# Altium integrated library Switch.IntLib: 11 symbols
Pins are listed as number, name and electrical type; pins without a type are passive.

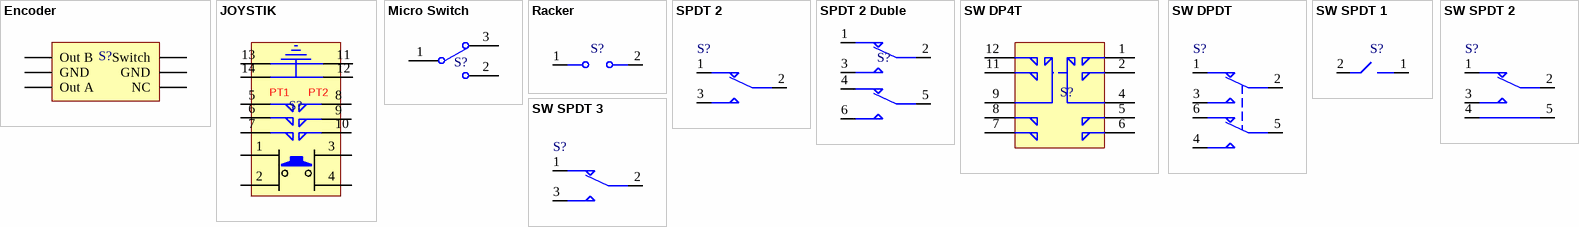
[diagram p0: symbols Encoder to SW SPDT 3]

## Encoder
designator S?
DatasheetVersion: 2022
footprint Encoder (Alps Enkoder+ sw)
pins: 0 NC, 1 Out A, 2 Out B, 3 GND , 4 GND, 5 Switch

## JOYSTIK
designator S?
DatasheetVersion: 2022
footprint JOYSTIK
pins: 1, 2, 3, 4, 5, 6, 7, 8, 9, 10, 11, 12, 13, 14
text: PT1; PT2

## Micro Switch
designator S?
ComponentLinkp-URL: https://www.smartw.ir/; DatasheetVersion: 2022
footprint Micro Switch
footprint Micro Switch-H
pins: 1, 2, 3

## Racker
designator S?
DatasheetVersion: 2022
footprint Racker 2 Pin
footprint SWRCK_SPST_S (SWITCH Rocker, SPST, Straight)
pins: 1 Button, 2

## SPDT 2
designator S?
Toggle SPDT Switch without Body Hole; DatasheetVersion: 2022
footprint Switch SPDT - 500x270x1100x185 mil
footprint Switch SPDT - 500x270x1100x185 mil - Right Angle
footprint SW SPDT- Horizontal
footprint SWTOG_SPDT_S_200MSPM2 (Switch Toggle, SPDT RightAngle, E.SWITCH 200MSP1T1B1M2QEH)
footprint SWTOG_SPDT_R_7101MD9 (Switch Toggle, 7101MD9ABE)
footprint SWTOG_SPDT_R_100SPM7 (Switch Toggle, SPDT RightAngle (manufacturer: E.SWITCH) 100SP1T2B4M7RE)
footprint Switch DPDT - 500x495x1100x185 mil
pins: 1, 2, 3

## SPDT 2 Duble
designator S?
Toggle SPDT Switch without Body Hole; DatasheetVersion: 2022
footprint Switch DPDT - 500x495x1100x185 mil
pins: 1, 2, 3, 4, 5, 6

## SW DP4T
designator S?
DP4T Slide Switch; DatasheetVersion: 2022
footprint SW DP4T
footprint SWSLIDT_DP4T_S_20X8
pins: 1, 2, 4, 5, 6, 7, 8, 9, 11, 12

## SW DPDT
designator S?
DPDT Switch; DatasheetVersion: 2022
footprint Switch - DPDT
footprint SWPUST_DPDT_S2 (Switch, Push, DPDT, THD, Straight)
pins: 1, 2, 3, 4, 5, 6

## SW SPDT 1
designator S?
Toggle SPDT Switch with Body Hole; DatasheetVersion: 2022
footprint SWSLIDT_SPST_S_19X11 (Switch, Slide, SPST, Straight, THD, 19X11mm)
pins: 1, 2

## SW SPDT 2
designator S?
Toggle SPDT Switch with Body Hole; DatasheetVersion: 2022
footprint SW SPDT Subminiator (Subminiator SPDT switch)
pins: 1, 2, 3, 4 (power), 5 (power)

## SW SPDT 3
designator S?
Toggle SPDT Switch with Body Hole; DatasheetVersion: 2022
footprint Switch - SPDT 15.5
footprint SWSLIDT_SPDT_S_8X4 (Switch, Slide, SPDT, Straight, THD, 8.6X4.3mm)
pins: 1, 2, 3